# Altium footprint library XT30.PcbLib: 1 footprints
Each footprint in its own frame and in the unit in brackets; x right, y up, seen from the top. Pads: shape width x height; smd on the part's side, far side on the other; paste and mask are expansions set on the pad; w line width, h text height; cw(c..) or ccw(c..) is an arc to the next point about the centre after c.
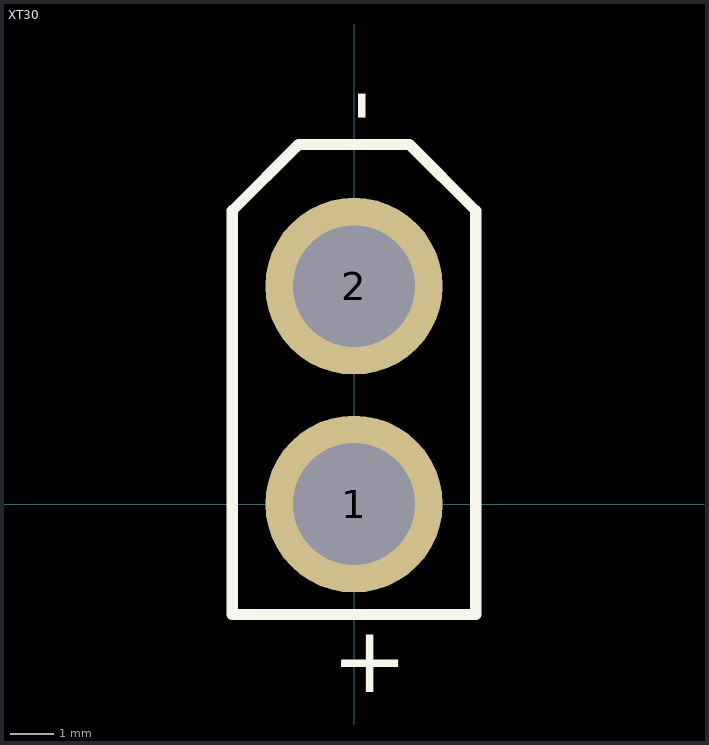
[diagram p0: the footprint, top view; thin cyan lines are the x and y axes]

## XT30 [mil]
pads (2):
  round 160 hole 110: 1(0,0) 2(0,196.85)
Top Overlay:
  lines w10: -110,-100 -110,265 -50,325 50,325 110,265 110,-100 -100,-100 -110,-100
  text "+" at -20,-170 h60
  text "-" at 30,345 h60